# Altium integrated library Texas Instruments Interface USB.IntLib: 91 symbols (part 11 of 12)
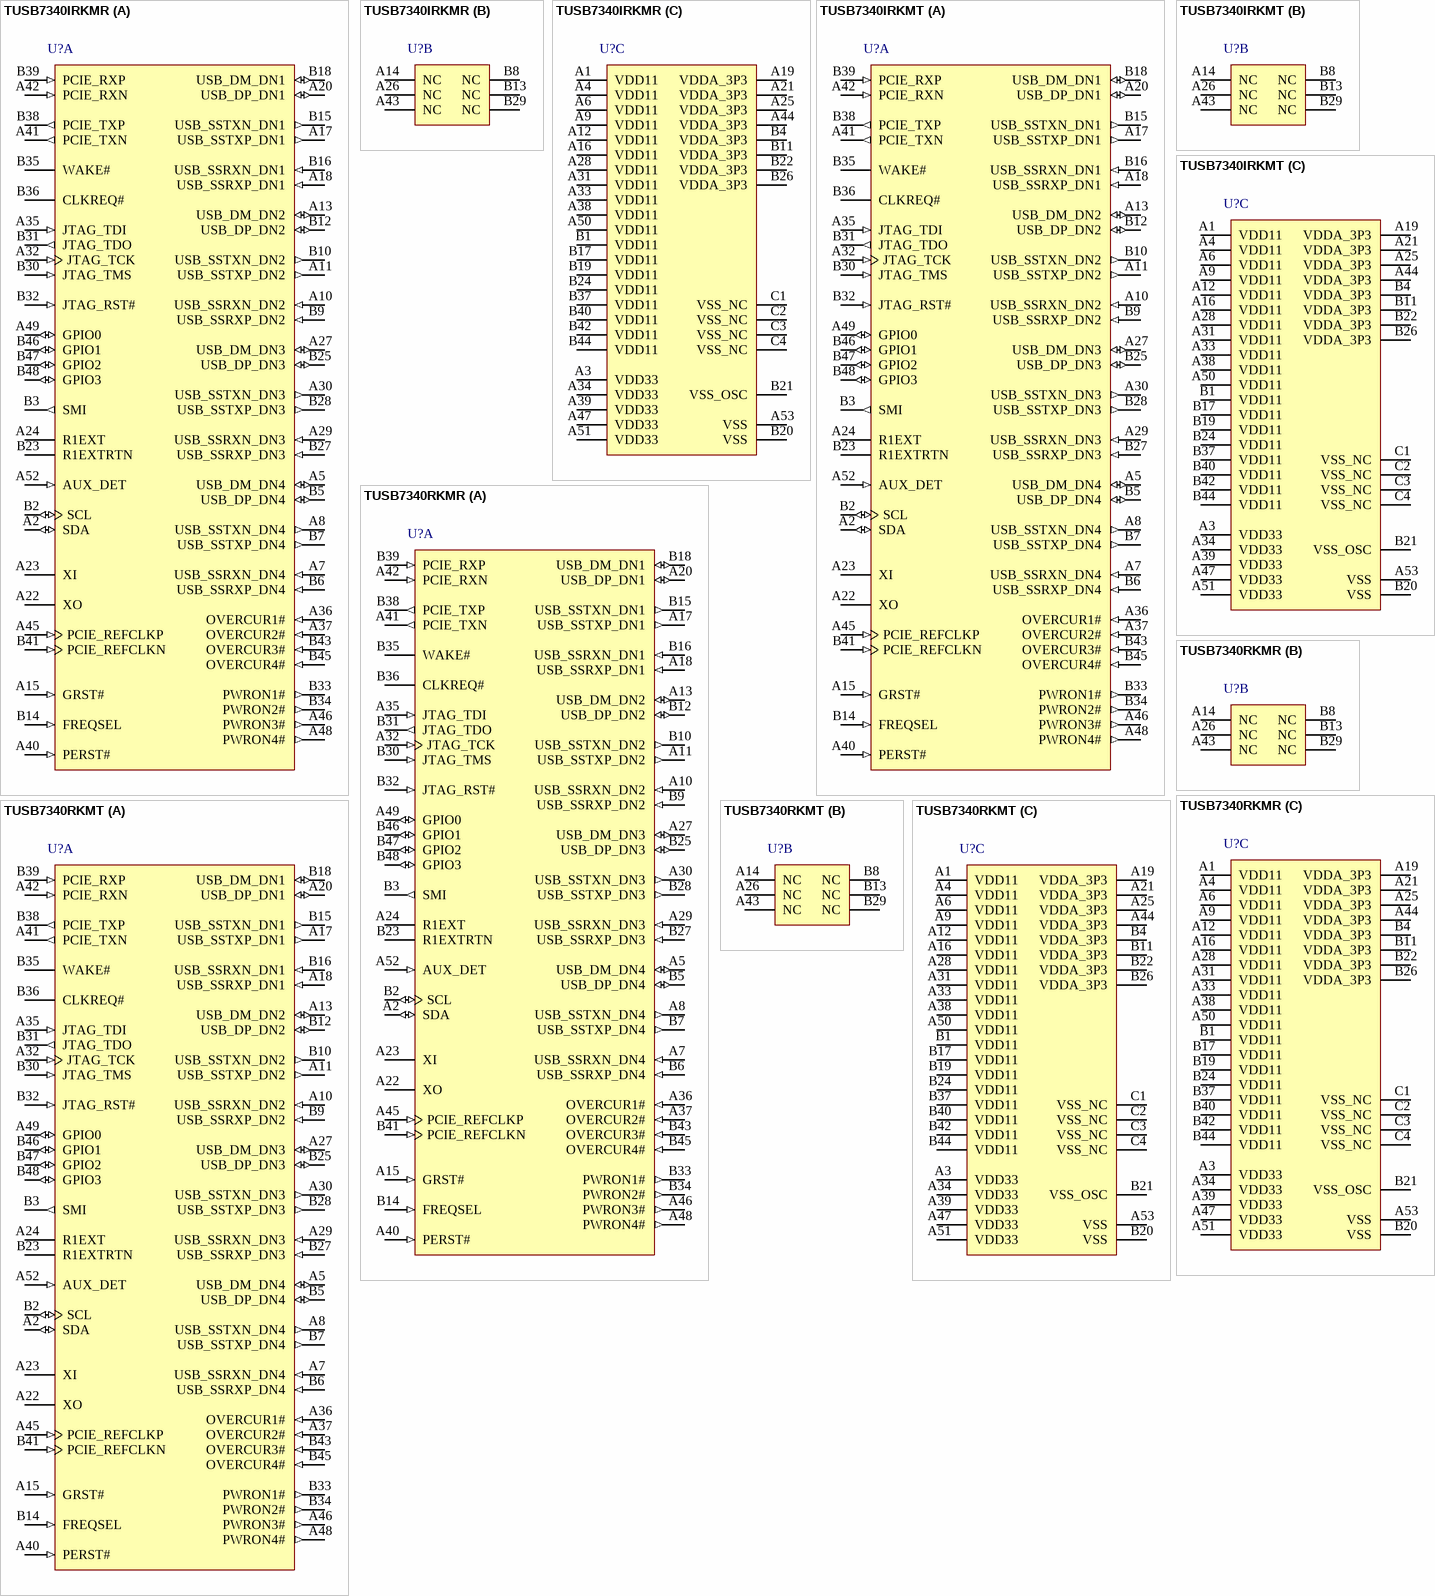
[diagram p18: symbols TUSB7340IRKMR to TUSB7340RKMT]

## TUSB7340IRKMT
designator U?
SuperSpeed USB 4-Port xHCI Host Controller, 1.1 / 3.3V, -40 to 85 degC, 100-Pin WQFN (RKM), Green (RoHS & no Sb/Br); PartNumber: TUSB7340IRKMT; Manufacturer: Texas Instruments; SubFamily: USB Host and On-the-Go; Supply Voltage(s)(V): 3.3, 1.1; Max# Host Ports: 4; App Proc Local Bus: x1 PCIe Gen2; DatasheetVersion: SLLSE76H; PackageVersion: revC, Oct-2011; PackageReference: RKM100-5500X5500TP; PackageDescription: 100-Pin Plastic Quad Flatpack No-Lead 0.6 mm Pitch; Mounting Technology: Surface Mount; Eco-Plan: Green (RoHS & no Sb/Br); USB Speed: SuperSpeed; ComponentLink1Description: Datasheet; ComponentLink1URL: http://www.ti.com/general/docs/lit/getliterature.tsp?genericPartNumber=TUSB7340&fileType=pdf; ComponentLink2Description: Package Specification; ComponentLink2URL: http://www.ti.com/litv/pdf/mpqf258b
footprint RKM100-5500X5500TP (QFN, 100-Leads, Body 9x9mm, Pitch 0.6mm, Thermal Pad 4.6x4.6mm, TI Recommended)
part A pins: A2 SDA (io) "I2C Data - If no I2C device is present, pull this line down to disable.", A5 USB_DM_DN4 (io) "USB High-speed differential transceiver (negative).", A7 USB_SSRXN_DN4 (in) "USB SuperSpeed receiver differential pair (negative).Note: When routing, it is permissible to swap the positive and negative signals in Port 4 SSRX differential pair.", A8 USB_SSTXN_DN4 (out) "USB SuperSpeed transmitter differential pair (negative).Note: When routing, it is permissible to swap the positive and negative signals in Port 4 SSTX differential pair.", A10 USB_SSRXN_DN2 (in) "USB SuperSpeed receiver differential pair ((negative)Note: When routing, it is permissible to swap the positive and negative signals in Port 2 SSRX differential pair.", A11 USB_SSTXP_DN2 (out) "USB SuperSpeed transmitter differential pair (positive).Note: When routing, it is permissible to swap the positive and negative signals in Port 2  SSTX differential pair", A13 USB_DM_DN2 (io) "USB High-speed differential transceiver (negative)", A15 GRST# (in) "Global power reset. This reset brings all of the TUSB73x0 internal registers to their default states. When GRST# is asserted, the device is completely nonfunctional. GRST# should be asserted until all power rails are valid (See Datasheet)", A17 USB_SSTXP_DN1 (out) "USB SuperSpeed transmitter differential pair (positive).Note: When routing, it is permissible to swap the positive and negative signals in Port 1 SSTX differential pair.", A18 USB_SSRXP_DN1 (in) "USB SuperSpeed receiver differential pair (positive).Note: When routing, it is permissible to swap the positive and negative signals in Port 1 SSRX differential pair.", A20 USB_DP_DN1 (io) "USB High-speed differential transceiver (positive).", A22 XO "Crystal output. This terminal is crystal output for the internal oscillator. If XI is driven by an external oscillator this pin may be left unconnected. When using a crystal a 2-M ohm feedback resistor is required between XI (See Datasheet)", A23 XI "Crystal intput. This terminal is crystal input for the internal oscillator.The input may alternately be driven by the output of an external oscillator. When using a crystal a 2-M ohm feedback resistor is required between XI (See Datasheet)", A24 R1EXT "High precision external resistor used for calibration. A resister value of 9.09 k ohm +/- 1% accuracy is connected between the terminals R1EXT and R1EXTRTN.", A27 USB_DM_DN3 (io) "USB High-speed differential transceiver (negative).", A29 USB_SSRXN_DN3 (in) "USB SuperSpeed receiver differential pair (negative).Note: When routing, it is permissible to swap the positive and negative signals in Port 3 SSRX differential pair.", A30 USB_SSTXN_DN3 (out) "USB SuperSpeed transmitter differential pair (negative).Note: When routing, it is permissible to swap the positive and negative signals in Port 3 SSTX differential pair.", A32 JTAG_TCK (in) "JTAG test clock", A35 JTAG_TDI (in) "JTAG test data in", A36 OVERCUR1# (in) "USB DS Port 1 Over-Current Detection.0: over-current detected; 1: over-current not detected.", A37 OVERCUR2# (in) "USB DS Port 2 Over-Current Detection.0: over-current detected;1: over-current not detected", A40 PERST# (in) "PCI Express Reset Input. The PERST# signal is used to signal when the system power is stable. The PERST# signal is also used to generate an internal power on reset.", A41 PCIE_TXN (out) "PCI Express transmitter differential pair (negative).", A42 PCIE_RXN (in) "PCI Express receiver differential pair (negative)", A45 PCIE_REFCLKP (in) "PCI Express Reference Clock. PCIE_REFCLKP and PCIE_REFCLKN comprise the differential input pair for the 100-MHz system reference clock.", A46 PWRON3# (out) "USB DS Port 3 Power On Control for Downstream Power. The terminal is used for control of the downstream power switch. If the PWRON_POLARITY bit is set to  ??this pin is active high and the internal pull-down is disabled. (See Datasheet)", A48 PWRON4# (out) "USB DS Port 4 Power On Control for Downstream Power. The terminal is used for control of the downstream power switch. If the PWRON_POLARITY bit is set to  ??this pin is active high and the internal pull-down is disabled. (See Datasheet)", A49 GPIO0 (io) "General purpose I/O", A52 AUX_DET (in) "Auxiliary power detect. This pin indicates if the TUSB73X0 is enabled for wakeup from D3cold.Note: If this feature is implemented, AUX_DET must be pulled to VDD33 to prevent leakage.", B2 SCL (io) "I2C Clock-If no I2C device is present, pull this line down to disable.", B3 SMI (out) "System management interrupt Note: This pin is active high and should not be pulled up/down.", B5 USB_DP_DN4 (io) "USB High-speed differential transceiver (positive).", B6 USB_SSRXP_DN4 (in) "USB SuperSpeed receiver differential pair (positive).Note: When routing, it is permissible to swap the positive and negative signals in Port 3 SSRX differential pair.", B7 USB_SSTXP_DN4 (out) "USB SuperSpeed transmitter differential pair (positive).Note: When routing, it is permissible to swap the positive and negative signals in Port 4 SSTX differential pair.", B9 USB_SSRXP_DN2 (in) "USB SuperSpeed receiver differential pair (positive)Note: When routing, it is permissible to swap the positive and negative signals in Port 2 SSRX differential pair.", B10 USB_SSTXN_DN2 (out) "USB SuperSpeed transmitter differential pair (negative).Note: When routing, it is permissible to swap the positive and negative signals in Port 2 SSTX differential pair.", B12 USB_DP_DN2 (io) "USB High-speed differential transceiver (positive).", B14 FREQSEL (in) "Frequency select. This terminal indicates the oscillator input frequency and is used to configure the correct PLL multiplier.If the FREQSEL pin is '0', the frequency used is 48 MHz. If the FREQSEL pin is '1', refer to Table (See Datasheet)", B15 USB_SSTXN_DN1 (out) "USB SuperSpeed transmitter differential pair (negative).Note: When routing, it is permissible to swap the positive and negative signals in Port 1 SSTX differential pair.", B16 USB_SSRXN_DN1 (in) "USB SuperSpeed receiver differential pair (negative).Note: When routing, it is permissible to swap the positive and negative signals in Port 1 SSRX differential pair.", B18 USB_DM_DN1 (io) "USB High-speed differential transceiver (negative).", B23 R1EXTRTN "High precision external resistor used for calibration. A resister value of 9.09 K ohm '+/- 1% accuracy is connected between the terminals R1EXT and R1EXTRTN.", B25 USB_DP_DN3 (io) "USB High-speed differential transceiver (positive).", B27 USB_SSRXP_DN3 (in) "USB SuperSpeed receiver differential pair (positive).Note: When routing, it is permissible to swap the positive and negative signals in Port 3 SSRX differential pair.", B28 USB_SSTXP_DN3 (out) "USB SuperSpeed transmitter differential pair (positive).Note: When routing, it is permissible to swap the positive and negative signals in Port 3 SSTX differential pair.", B30 JTAG_TMS (in) "JTAG test mode select", B31 JTAG_TDO (out) "JTAG test data out", B32 JTAG_RST# (in) "JTAG reset. Should be pulled low for normal operation.", B33 PWRON1# (out) "USB DS Port 1 Power On Control for Downstream Power. The terminal is used for control of the downstream power switch. If the PWRON_POLARITY bit is set to ??this pin is active high and the internal pull-down is disabled. (See Datasheet)", B34 PWRON2# (out) "USB DS Port 2 Power On Control for Downstream Power. The terminal is used for control of the downstream power switch. If the PWRON_POLARITY bit is set to  ??this pin is active high and the internal pull-down is disabled. (See Datasheet)", B35 WAKE# "Wake. Wake is an active low signal that is driven low to reactivate the PCI Express link hierarchy hierarchy’s main power rails and reference clocks.Note: WAKE# is a failsafe I/O and can be connected to a 3.3-V auxiliary (See Datasheet)", B36 CLKREQ# "PCI Express REFCLK Request signal.Note: CLKREQ# is a failsafe I/O and can be connected to a 3.3-V auxiliary supply while VDD33 is not present.", B38 PCIE_TXP (out) "PCI Express transmitter differential pair (positive).", B39 PCIE_RXP (in) "PCI Express receiver differential pair (positive).", B41 PCIE_REFCLKN (in) "PCI Express Reference Clock. PCIE_REFCLKP and PCIE_REFCLKN comprise the differential input pair for the 100-MHz system reference clock.", B43 OVERCUR3# (in) "USB DS Port 3 Over-Current Detection.0: over-current detected;1: over-current not detected", B45 OVERCUR4# (in) "USB DS Port 4 Over-Current Detection.0: over-current detected;1: over-current not detected", B46 GPIO1 (io) "General purpose I/O", B47 GPIO2 (io) "General purpose I/O", B48 GPIO3 (io) "General purpose I/O"
part B pins: A14 NC "Pins are not connected internally.Note: TUSB7320 pins B4 and B26 may be connected to VDDA_3P3 to support a dual-layout option with the TUSB7340.", A26 NC "Pins are not connected internally.Note: TUSB7320 pins B4 and B26 may be connected to VDDA_3P3 to support a dual-layout option with the TUSB7340.", A43 NC "Pins are not connected internally.Note: TUSB7320 pins B4 and B26 may be connected to VDDA_3P3 to support a dual-layout option with the TUSB7340.", B8 NC "Pins are not connected internally.Note: TUSB7320 pins B4 and B26 may be connected to VDDA_3P3 to support a dual-layout option with the TUSB7340.", B13 NC "Pins are not connected internally.Note: TUSB7320 pins B4 and B26 may be connected to VDDA_3P3 to support a dual-layout option with the TUSB7340.", B29 NC "Pins are not connected internally.Note: TUSB7320 pins B4 and B26 may be connected to VDDA_3P3 to support a dual-layout option with the TUSB7340."
part C pins: A1 VDD11 (power) "1.1-V core power rail", A3 VDD33 (power) "3.3-V I/O power rail", A4 VDD11 (power) "1.1-V core power rail", A6 VDD11 (power) "1.1-V core power rail", A9 VDD11 (power) "1.1-V core power rail", A12 VDD11 (power) "1.1-V core power rail", A16 VDD11 (power) "1.1-V core power rail", A19 VDDA_3P3 (power) "3.3-V analog power rail", A21 VDDA_3P3 (power) "3.3-V analog power rail", A25 VDDA_3P3 (power) "3.3-V analog power rail", A28 VDD11 (power) "1.1-V core power rail", A31 VDD11 (power) "1.1-V core power rail", A33 VDD11 (power) "1.1-V core power rail", A34 VDD33 (power) "3.3-V I/O power rail", A38 VDD11 (power) "1.1-V core power rail", A39 VDD33 (power) "3.3-V I/O power rail", A44 VDDA_3P3 (power) "3.3-V analog power rail", A47 VDD33 (power) "3.3-V I/O power rail", A50 VDD11 (power) "1.1-V core power rail", A51 VDD33 (power) "3.3-V I/O power rail", A53 VSS (power) "Ground. The ground pad is labeled A53 for schematic purposes.", B1 VDD11 (power) "1.1-V core power rail", B4 VDDA_3P3 (power) "3.3-V analog power rail", B11 VDDA_3P3 (power) "3.3-V analog power rail", B17 VDD11 (power) "1.1-V core power rail", B19 VDD11 (power) "1.1-V core power rail", B20 VSS (power) "Ground. The ground pad is labeled A53 for schematic purposes.", B21 VSS_OSC (power) "Oscillator return.If using a crystal, the load capacitors should use this signal as the return path and it should not be connected to the PCB ground.If using an oscillator, this should be connected to PCB Ground.", B22 VDDA_3P3 (power) "3.3-V analog power rail", B24 VDD11 (power) "1.1-V core power rail", B26 VDDA_3P3 (power) "3.3-V analog power rail", B37 VDD11 (power) "1.1-V core power rail", B40 VDD11 (power) "1.1-V core power rail", B42 VDD11 (power) "1.1-V core power rail", B44 VDD11 (power) "1.1-V core power rail", C1 VSS_NC (power) "The corner pins, which are for mechanical stability of the package, are connected to ground internally. These pins may be connected to VSS or left unconnected.", C2 VSS_NC (power) "The corner pins, which are for mechanical stability of the package, are connected to ground internally. These pins may be connected to VSS or left unconnected.", C3 VSS_NC (power) "The corner pins, which are for mechanical stability of the package, are connected to ground internally. These pins may be connected to VSS or left unconnected.", C4 VSS_NC (power) "The corner pins, which are for mechanical stability of the package, are connected to ground internally. These pins may be connected to VSS or left unconnected."

## TUSB7340RKMR
designator U?
SuperSpeed USB 4-Port xHCI Host Controller, 1.1 / 3.3V, 0 to 70 degC, 100-Pin WQFN (RKM), Green (RoHS & no Sb/Br); PartNumber: TUSB7340RKMR; Manufacturer: Texas Instruments; SubFamily: USB Host and On-the-Go; Supply Voltage(s)(V): 3.3, 1.1; Max# Host Ports: 4; App Proc Local Bus: x1 PCIe Gen2; DatasheetVersion: SLLSE76H; PackageVersion: revC, Oct-2011; PackageReference: RKM100-5500X5500TP; PackageDescription: 100-Pin Plastic Quad Flatpack No-Lead 0.6 mm Pitch; Mounting Technology: Surface Mount; Eco-Plan: Green (RoHS & no Sb/Br); USB Speed: SuperSpeed; ComponentLink1Description: Datasheet; ComponentLink1URL: http://www.ti.com/general/docs/lit/getliterature.tsp?genericPartNumber=TUSB7340&fileType=pdf; ComponentLink2Description: Package Specification; ComponentLink2URL: http://www.ti.com/litv/pdf/mpqf258b
footprint RKM100-5500X5500TP (QFN, 100-Leads, Body 9x9mm, Pitch 0.6mm, Thermal Pad 4.6x4.6mm, TI Recommended)
part A pins: A2 SDA (io) "I2C Data - If no I2C device is present, pull this line down to disable.", A5 USB_DM_DN4 (io) "USB High-speed differential transceiver (negative).", A7 USB_SSRXN_DN4 (in) "USB SuperSpeed receiver differential pair (negative).Note: When routing, it is permissible to swap the positive and negative signals in Port 4 SSRX differential pair.", A8 USB_SSTXN_DN4 (out) "USB SuperSpeed transmitter differential pair (negative).Note: When routing, it is permissible to swap the positive and negative signals in Port 4 SSTX differential pair.", A10 USB_SSRXN_DN2 (in) "USB SuperSpeed receiver differential pair ((negative)Note: When routing, it is permissible to swap the positive and negative signals in Port 2 SSRX differential pair.", A11 USB_SSTXP_DN2 (out) "USB SuperSpeed transmitter differential pair (positive).Note: When routing, it is permissible to swap the positive and negative signals in Port 2  SSTX differential pair", A13 USB_DM_DN2 (io) "USB High-speed differential transceiver (negative)", A15 GRST# (in) "Global power reset. This reset brings all of the TUSB73x0 internal registers to their default states. When GRST# is asserted, the device is completely nonfunctional. GRST# should be asserted until all power rails are valid (See Datasheet)", A17 USB_SSTXP_DN1 (out) "USB SuperSpeed transmitter differential pair (positive).Note: When routing, it is permissible to swap the positive and negative signals in Port 1 SSTX differential pair.", A18 USB_SSRXP_DN1 (in) "USB SuperSpeed receiver differential pair (positive).Note: When routing, it is permissible to swap the positive and negative signals in Port 1 SSRX differential pair.", A20 USB_DP_DN1 (io) "USB High-speed differential transceiver (positive).", A22 XO "Crystal output. This terminal is crystal output for the internal oscillator. If XI is driven by an external oscillator this pin may be left unconnected. When using a crystal a 2-M ohm feedback resistor is required between XI (See Datasheet)", A23 XI "Crystal intput. This terminal is crystal input for the internal oscillator.The input may alternately be driven by the output of an external oscillator. When using a crystal a 2-M ohm feedback resistor is required between XI (See Datasheet)", A24 R1EXT "High precision external resistor used for calibration. A resister value of 9.09 k ohm +/- 1% accuracy is connected between the terminals R1EXT and R1EXTRTN.", A27 USB_DM_DN3 (io) "USB High-speed differential transceiver (negative).", A29 USB_SSRXN_DN3 (in) "USB SuperSpeed receiver differential pair (negative).Note: When routing, it is permissible to swap the positive and negative signals in Port 3 SSRX differential pair.", A30 USB_SSTXN_DN3 (out) "USB SuperSpeed transmitter differential pair (negative).Note: When routing, it is permissible to swap the positive and negative signals in Port 3 SSTX differential pair.", A32 JTAG_TCK (in) "JTAG test clock", A35 JTAG_TDI (in) "JTAG test data in", A36 OVERCUR1# (in) "USB DS Port 1 Over-Current Detection.0: over-current detected; 1: over-current not detected.", A37 OVERCUR2# (in) "USB DS Port 2 Over-Current Detection.0: over-current detected;1: over-current not detected", A40 PERST# (in) "PCI Express Reset Input. The PERST# signal is used to signal when the system power is stable. The PERST# signal is also used to generate an internal power on reset.", A41 PCIE_TXN (out) "PCI Express transmitter differential pair (negative).", A42 PCIE_RXN (in) "PCI Express receiver differential pair (negative)", A45 PCIE_REFCLKP (in) "PCI Express Reference Clock. PCIE_REFCLKP and PCIE_REFCLKN comprise the differential input pair for the 100-MHz system reference clock.", A46 PWRON3# (out) "USB DS Port 3 Power On Control for Downstream Power. The terminal is used for control of the downstream power switch. If the PWRON_POLARITY bit is set to  ??this pin is active high and the internal pull-down is disabled. (See Datasheet)", A48 PWRON4# (out) "USB DS Port 4 Power On Control for Downstream Power. The terminal is used for control of the downstream power switch. If the PWRON_POLARITY bit is set to  ??this pin is active high and the internal pull-down is disabled. (See Datasheet)", A49 GPIO0 (io) "General purpose I/O", A52 AUX_DET (in) "Auxiliary power detect. This pin indicates if the TUSB73X0 is enabled for wakeup from D3cold.Note: If this feature is implemented, AUX_DET must be pulled to VDD33 to prevent leakage.", B2 SCL (io) "I2C Clock-If no I2C device is present, pull this line down to disable.", B3 SMI (out) "System management interrupt Note: This pin is active high and should not be pulled up/down.", B5 USB_DP_DN4 (io) "USB High-speed differential transceiver (positive).", B6 USB_SSRXP_DN4 (in) "USB SuperSpeed receiver differential pair (positive).Note: When routing, it is permissible to swap the positive and negative signals in Port 3 SSRX differential pair.", B7 USB_SSTXP_DN4 (out) "USB SuperSpeed transmitter differential pair (positive).Note: When routing, it is permissible to swap the positive and negative signals in Port 4 SSTX differential pair.", B9 USB_SSRXP_DN2 (in) "USB SuperSpeed receiver differential pair (positive)Note: When routing, it is permissible to swap the positive and negative signals in Port 2 SSRX differential pair.", B10 USB_SSTXN_DN2 (out) "USB SuperSpeed transmitter differential pair (negative).Note: When routing, it is permissible to swap the positive and negative signals in Port 2 SSTX differential pair.", B12 USB_DP_DN2 (io) "USB High-speed differential transceiver (positive).", B14 FREQSEL (in) "Frequency select. This terminal indicates the oscillator input frequency and is used to configure the correct PLL multiplier.If the FREQSEL pin is '0', the frequency used is 48 MHz. If the FREQSEL pin is '1', refer to Table (See Datasheet)", B15 USB_SSTXN_DN1 (out) "USB SuperSpeed transmitter differential pair (negative).Note: When routing, it is permissible to swap the positive and negative signals in Port 1 SSTX differential pair.", B16 USB_SSRXN_DN1 (in) "USB SuperSpeed receiver differential pair (negative).Note: When routing, it is permissible to swap the positive and negative signals in Port 1 SSRX differential pair.", B18 USB_DM_DN1 (io) "USB High-speed differential transceiver (negative).", B23 R1EXTRTN "High precision external resistor used for calibration. A resister value of 9.09 K ohm '+/- 1% accuracy is connected between the terminals R1EXT and R1EXTRTN.", B25 USB_DP_DN3 (io) "USB High-speed differential transceiver (positive).", B27 USB_SSRXP_DN3 (in) "USB SuperSpeed receiver differential pair (positive).Note: When routing, it is permissible to swap the positive and negative signals in Port 3 SSRX differential pair.", B28 USB_SSTXP_DN3 (out) "USB SuperSpeed transmitter differential pair (positive).Note: When routing, it is permissible to swap the positive and negative signals in Port 3 SSTX differential pair.", B30 JTAG_TMS (in) "JTAG test mode select", B31 JTAG_TDO (out) "JTAG test data out", B32 JTAG_RST# (in) "JTAG reset. Should be pulled low for normal operation.", B33 PWRON1# (out) "USB DS Port 1 Power On Control for Downstream Power. The terminal is used for control of the downstream power switch. If the PWRON_POLARITY bit is set to ??this pin is active high and the internal pull-down is disabled. (See Datasheet)", B34 PWRON2# (out) "USB DS Port 2 Power On Control for Downstream Power. The terminal is used for control of the downstream power switch. If the PWRON_POLARITY bit is set to  ??this pin is active high and the internal pull-down is disabled. (See Datasheet)", B35 WAKE# "Wake. Wake is an active low signal that is driven low to reactivate the PCI Express link hierarchy hierarchy’s main power rails and reference clocks.Note: WAKE# is a failsafe I/O and can be connected to a 3.3-V auxiliary (See Datasheet)", B36 CLKREQ# "PCI Express REFCLK Request signal.Note: CLKREQ# is a failsafe I/O and can be connected to a 3.3-V auxiliary supply while VDD33 is not present.", B38 PCIE_TXP (out) "PCI Express transmitter differential pair (positive).", B39 PCIE_RXP (in) "PCI Express receiver differential pair (positive).", B41 PCIE_REFCLKN (in) "PCI Express Reference Clock. PCIE_REFCLKP and PCIE_REFCLKN comprise the differential input pair for the 100-MHz system reference clock.", B43 OVERCUR3# (in) "USB DS Port 3 Over-Current Detection.0: over-current detected;1: over-current not detected", B45 OVERCUR4# (in) "USB DS Port 4 Over-Current Detection.0: over-current detected;1: over-current not detected", B46 GPIO1 (io) "General purpose I/O", B47 GPIO2 (io) "General purpose I/O", B48 GPIO3 (io) "General purpose I/O"
part B pins: A14 NC "Pins are not connected internally.Note: TUSB7320 pins B4 and B26 may be connected to VDDA_3P3 to support a dual-layout option with the TUSB7340.", A26 NC "Pins are not connected internally.Note: TUSB7320 pins B4 and B26 may be connected to VDDA_3P3 to support a dual-layout option with the TUSB7340.", A43 NC "Pins are not connected internally.Note: TUSB7320 pins B4 and B26 may be connected to VDDA_3P3 to support a dual-layout option with the TUSB7340.", B8 NC "Pins are not connected internally.Note: TUSB7320 pins B4 and B26 may be connected to VDDA_3P3 to support a dual-layout option with the TUSB7340.", B13 NC "Pins are not connected internally.Note: TUSB7320 pins B4 and B26 may be connected to VDDA_3P3 to support a dual-layout option with the TUSB7340.", B29 NC "Pins are not connected internally.Note: TUSB7320 pins B4 and B26 may be connected to VDDA_3P3 to support a dual-layout option with the TUSB7340."
part C pins: A1 VDD11 (power) "1.1-V core power rail", A3 VDD33 (power) "3.3-V I/O power rail", A4 VDD11 (power) "1.1-V core power rail", A6 VDD11 (power) "1.1-V core power rail", A9 VDD11 (power) "1.1-V core power rail", A12 VDD11 (power) "1.1-V core power rail", A16 VDD11 (power) "1.1-V core power rail", A19 VDDA_3P3 (power) "3.3-V analog power rail", A21 VDDA_3P3 (power) "3.3-V analog power rail", A25 VDDA_3P3 (power) "3.3-V analog power rail", A28 VDD11 (power) "1.1-V core power rail", A31 VDD11 (power) "1.1-V core power rail", A33 VDD11 (power) "1.1-V core power rail", A34 VDD33 (power) "3.3-V I/O power rail", A38 VDD11 (power) "1.1-V core power rail", A39 VDD33 (power) "3.3-V I/O power rail", A44 VDDA_3P3 (power) "3.3-V analog power rail", A47 VDD33 (power) "3.3-V I/O power rail", A50 VDD11 (power) "1.1-V core power rail", A51 VDD33 (power) "3.3-V I/O power rail", A53 VSS (power) "Ground. The ground pad is labeled A53 for schematic purposes.", B1 VDD11 (power) "1.1-V core power rail", B4 VDDA_3P3 (power) "3.3-V analog power rail", B11 VDDA_3P3 (power) "3.3-V analog power rail", B17 VDD11 (power) "1.1-V core power rail", B19 VDD11 (power) "1.1-V core power rail", B20 VSS (power) "Ground. The ground pad is labeled A53 for schematic purposes.", B21 VSS_OSC (power) "Oscillator return.If using a crystal, the load capacitors should use this signal as the return path and it should not be connected to the PCB ground.If using an oscillator, this should be connected to PCB Ground.", B22 VDDA_3P3 (power) "3.3-V analog power rail", B24 VDD11 (power) "1.1-V core power rail", B26 VDDA_3P3 (power) "3.3-V analog power rail", B37 VDD11 (power) "1.1-V core power rail", B40 VDD11 (power) "1.1-V core power rail", B42 VDD11 (power) "1.1-V core power rail", B44 VDD11 (power) "1.1-V core power rail", C1 VSS_NC (power) "The corner pins, which are for mechanical stability of the package, are connected to ground internally. These pins may be connected to VSS or left unconnected.", C2 VSS_NC (power) "The corner pins, which are for mechanical stability of the package, are connected to ground internally. These pins may be connected to VSS or left unconnected.", C3 VSS_NC (power) "The corner pins, which are for mechanical stability of the package, are connected to ground internally. These pins may be connected to VSS or left unconnected.", C4 VSS_NC (power) "The corner pins, which are for mechanical stability of the package, are connected to ground internally. These pins may be connected to VSS or left unconnected."

## TUSB7340RKMT
designator U?
SuperSpeed USB 4-Port xHCI Host Controller, 1.1 / 3.3V, 0 to 70 degC, 100-Pin WQFN (RKM), Green (RoHS & no Sb/Br); PartNumber: TUSB7340RKMT; Manufacturer: Texas Instruments; SubFamily: USB Host and On-the-Go; Supply Voltage(s)(V): 3.3, 1.1; Max# Host Ports: 4; App Proc Local Bus: x1 PCIe Gen2; DatasheetVersion: SLLSE76H; PackageVersion: revC, Oct-2011; PackageReference: RKM100-5500X5500TP; PackageDescription: 100-Pin Plastic Quad Flatpack No-Lead 0.6 mm Pitch; Mounting Technology: Surface Mount; Eco-Plan: Green (RoHS & no Sb/Br); USB Speed: SuperSpeed; ComponentLink1Description: Datasheet; ComponentLink1URL: http://www.ti.com/general/docs/lit/getliterature.tsp?genericPartNumber=TUSB7340&fileType=pdf; ComponentLink2Description: Package Specification; ComponentLink2URL: http://www.ti.com/litv/pdf/mpqf258b
footprint RKM100-5500X5500TP (QFN, 100-Leads, Body 9x9mm, Pitch 0.6mm, Thermal Pad 4.6x4.6mm, TI Recommended)
part A pins: A2 SDA (io) "I2C Data - If no I2C device is present, pull this line down to disable.", A5 USB_DM_DN4 (io) "USB High-speed differential transceiver (negative).", A7 USB_SSRXN_DN4 (in) "USB SuperSpeed receiver differential pair (negative).Note: When routing, it is permissible to swap the positive and negative signals in Port 4 SSRX differential pair.", A8 USB_SSTXN_DN4 (out) "USB SuperSpeed transmitter differential pair (negative).Note: When routing, it is permissible to swap the positive and negative signals in Port 4 SSTX differential pair.", A10 USB_SSRXN_DN2 (in) "USB SuperSpeed receiver differential pair ((negative)Note: When routing, it is permissible to swap the positive and negative signals in Port 2 SSRX differential pair.", A11 USB_SSTXP_DN2 (out) "USB SuperSpeed transmitter differential pair (positive).Note: When routing, it is permissible to swap the positive and negative signals in Port 2  SSTX differential pair", A13 USB_DM_DN2 (io) "USB High-speed differential transceiver (negative)", A15 GRST# (in) "Global power reset. This reset brings all of the TUSB73x0 internal registers to their default states. When GRST# is asserted, the device is completely nonfunctional. GRST# should be asserted until all power rails are valid (See Datasheet)", A17 USB_SSTXP_DN1 (out) "USB SuperSpeed transmitter differential pair (positive).Note: When routing, it is permissible to swap the positive and negative signals in Port 1 SSTX differential pair.", A18 USB_SSRXP_DN1 (in) "USB SuperSpeed receiver differential pair (positive).Note: When routing, it is permissible to swap the positive and negative signals in Port 1 SSRX differential pair.", A20 USB_DP_DN1 (io) "USB High-speed differential transceiver (positive).", A22 XO "Crystal output. This terminal is crystal output for the internal oscillator. If XI is driven by an external oscillator this pin may be left unconnected. When using a crystal a 2-M ohm feedback resistor is required between XI (See Datasheet)", A23 XI "Crystal intput. This terminal is crystal input for the internal oscillator.The input may alternately be driven by the output of an external oscillator. When using a crystal a 2-M ohm feedback resistor is required between XI (See Datasheet)", A24 R1EXT "High precision external resistor used for calibration. A resister value of 9.09 k ohm +/- 1% accuracy is connected between the terminals R1EXT and R1EXTRTN.", A27 USB_DM_DN3 (io) "USB High-speed differential transceiver (negative).", A29 USB_SSRXN_DN3 (in) "USB SuperSpeed receiver differential pair (negative).Note: When routing, it is permissible to swap the positive and negative signals in Port 3 SSRX differential pair.", A30 USB_SSTXN_DN3 (out) "USB SuperSpeed transmitter differential pair (negative).Note: When routing, it is permissible to swap the positive and negative signals in Port 3 SSTX differential pair.", A32 JTAG_TCK (in) "JTAG test clock", A35 JTAG_TDI (in) "JTAG test data in", A36 OVERCUR1# (in) "USB DS Port 1 Over-Current Detection.0: over-current detected; 1: over-current not detected.", A37 OVERCUR2# (in) "USB DS Port 2 Over-Current Detection.0: over-current detected;1: over-current not detected", A40 PERST# (in) "PCI Express Reset Input. The PERST# signal is used to signal when the system power is stable. The PERST# signal is also used to generate an internal power on reset.", A41 PCIE_TXN (out) "PCI Express transmitter differential pair (negative).", A42 PCIE_RXN (in) "PCI Express receiver differential pair (negative)", A45 PCIE_REFCLKP (in) "PCI Express Reference Clock. PCIE_REFCLKP and PCIE_REFCLKN comprise the differential input pair for the 100-MHz system reference clock.", A46 PWRON3# (out) "USB DS Port 3 Power On Control for Downstream Power. The terminal is used for control of the downstream power switch. If the PWRON_POLARITY bit is set to  ??this pin is active high and the internal pull-down is disabled. (See Datasheet)", A48 PWRON4# (out) "USB DS Port 4 Power On Control for Downstream Power. The terminal is used for control of the downstream power switch. If the PWRON_POLARITY bit is set to  ??this pin is active high and the internal pull-down is disabled. (See Datasheet)", A49 GPIO0 (io) "General purpose I/O", A52 AUX_DET (in) "Auxiliary power detect. This pin indicates if the TUSB73X0 is enabled for wakeup from D3cold.Note: If this feature is implemented, AUX_DET must be pulled to VDD33 to prevent leakage.", B2 SCL (io) "I2C Clock-If no I2C device is present, pull this line down to disable.", B3 SMI (out) "System management interrupt Note: This pin is active high and should not be pulled up/down.", B5 USB_DP_DN4 (io) "USB High-speed differential transceiver (positive).", B6 USB_SSRXP_DN4 (in) "USB SuperSpeed receiver differential pair (positive).Note: When routing, it is permissible to swap the positive and negative signals in Port 3 SSRX differential pair.", B7 USB_SSTXP_DN4 (out) "USB SuperSpeed transmitter differential pair (positive).Note: When routing, it is permissible to swap the positive and negative signals in Port 4 SSTX differential pair.", B9 USB_SSRXP_DN2 (in) "USB SuperSpeed receiver differential pair (positive)Note: When routing, it is permissible to swap the positive and negative signals in Port 2 SSRX differential pair.", B10 USB_SSTXN_DN2 (out) "USB SuperSpeed transmitter differential pair (negative).Note: When routing, it is permissible to swap the positive and negative signals in Port 2 SSTX differential pair.", B12 USB_DP_DN2 (io) "USB High-speed differential transceiver (positive).", B14 FREQSEL (in) "Frequency select. This terminal indicates the oscillator input frequency and is used to configure the correct PLL multiplier.If the FREQSEL pin is '0', the frequency used is 48 MHz. If the FREQSEL pin is '1', refer to Table (See Datasheet)", B15 USB_SSTXN_DN1 (out) "USB SuperSpeed transmitter differential pair (negative).Note: When routing, it is permissible to swap the positive and negative signals in Port 1 SSTX differential pair.", B16 USB_SSRXN_DN1 (in) "USB SuperSpeed receiver differential pair (negative).Note: When routing, it is permissible to swap the positive and negative signals in Port 1 SSRX differential pair.", B18 USB_DM_DN1 (io) "USB High-speed differential transceiver (negative).", B23 R1EXTRTN "High precision external resistor used for calibration. A resister value of 9.09 K ohm '+/- 1% accuracy is connected between the terminals R1EXT and R1EXTRTN.", B25 USB_DP_DN3 (io) "USB High-speed differential transceiver (positive).", B27 USB_SSRXP_DN3 (in) "USB SuperSpeed receiver differential pair (positive).Note: When routing, it is permissible to swap the positive and negative signals in Port 3 SSRX differential pair.", B28 USB_SSTXP_DN3 (out) "USB SuperSpeed transmitter differential pair (positive).Note: When routing, it is permissible to swap the positive and negative signals in Port 3 SSTX differential pair.", B30 JTAG_TMS (in) "JTAG test mode select", B31 JTAG_TDO (out) "JTAG test data out", B32 JTAG_RST# (in) "JTAG reset. Should be pulled low for normal operation.", B33 PWRON1# (out) "USB DS Port 1 Power On Control for Downstream Power. The terminal is used for control of the downstream power switch. If the PWRON_POLARITY bit is set to ??this pin is active high and the internal pull-down is disabled. (See Datasheet)", B34 PWRON2# (out) "USB DS Port 2 Power On Control for Downstream Power. The terminal is used for control of the downstream power switch. If the PWRON_POLARITY bit is set to  ??this pin is active high and the internal pull-down is disabled. (See Datasheet)", B35 WAKE# "Wake. Wake is an active low signal that is driven low to reactivate the PCI Express link hierarchy hierarchy’s main power rails and reference clocks.Note: WAKE# is a failsafe I/O and can be connected to a 3.3-V auxiliary (See Datasheet)", B36 CLKREQ# "PCI Express REFCLK Request signal.Note: CLKREQ# is a failsafe I/O and can be connected to a 3.3-V auxiliary supply while VDD33 is not present.", B38 PCIE_TXP (out) "PCI Express transmitter differential pair (positive).", B39 PCIE_RXP (in) "PCI Express receiver differential pair (positive).", B41 PCIE_REFCLKN (in) "PCI Express Reference Clock. PCIE_REFCLKP and PCIE_REFCLKN comprise the differential input pair for the 100-MHz system reference clock.", B43 OVERCUR3# (in) "USB DS Port 3 Over-Current Detection.0: over-current detected;1: over-current not detected", B45 OVERCUR4# (in) "USB DS Port 4 Over-Current Detection.0: over-current detected;1: over-current not detected", B46 GPIO1 (io) "General purpose I/O", B47 GPIO2 (io) "General purpose I/O", B48 GPIO3 (io) "General purpose I/O"
part B pins: A14 NC "Pins are not connected internally.Note: TUSB7320 pins B4 and B26 may be connected to VDDA_3P3 to support a dual-layout option with the TUSB7340.", A26 NC "Pins are not connected internally.Note: TUSB7320 pins B4 and B26 may be connected to VDDA_3P3 to support a dual-layout option with the TUSB7340.", A43 NC "Pins are not connected internally.Note: TUSB7320 pins B4 and B26 may be connected to VDDA_3P3 to support a dual-layout option with the TUSB7340.", B8 NC "Pins are not connected internally.Note: TUSB7320 pins B4 and B26 may be connected to VDDA_3P3 to support a dual-layout option with the TUSB7340.", B13 NC "Pins are not connected internally.Note: TUSB7320 pins B4 and B26 may be connected to VDDA_3P3 to support a dual-layout option with the TUSB7340.", B29 NC "Pins are not connected internally.Note: TUSB7320 pins B4 and B26 may be connected to VDDA_3P3 to support a dual-layout option with the TUSB7340."
part C pins: A1 VDD11 (power) "1.1-V core power rail", A3 VDD33 (power) "3.3-V I/O power rail", A4 VDD11 (power) "1.1-V core power rail", A6 VDD11 (power) "1.1-V core power rail", A9 VDD11 (power) "1.1-V core power rail", A12 VDD11 (power) "1.1-V core power rail", A16 VDD11 (power) "1.1-V core power rail", A19 VDDA_3P3 (power) "3.3-V analog power rail", A21 VDDA_3P3 (power) "3.3-V analog power rail", A25 VDDA_3P3 (power) "3.3-V analog power rail", A28 VDD11 (power) "1.1-V core power rail", A31 VDD11 (power) "1.1-V core power rail", A33 VDD11 (power) "1.1-V core power rail", A34 VDD33 (power) "3.3-V I/O power rail", A38 VDD11 (power) "1.1-V core power rail", A39 VDD33 (power) "3.3-V I/O power rail", A44 VDDA_3P3 (power) "3.3-V analog power rail", A47 VDD33 (power) "3.3-V I/O power rail", A50 VDD11 (power) "1.1-V core power rail", A51 VDD33 (power) "3.3-V I/O power rail", A53 VSS (power) "Ground. The ground pad is labeled A53 for schematic purposes.", B1 VDD11 (power) "1.1-V core power rail", B4 VDDA_3P3 (power) "3.3-V analog power rail", B11 VDDA_3P3 (power) "3.3-V analog power rail", B17 VDD11 (power) "1.1-V core power rail", B19 VDD11 (power) "1.1-V core power rail", B20 VSS (power) "Ground. The ground pad is labeled A53 for schematic purposes.", B21 VSS_OSC (power) "Oscillator return.If using a crystal, the load capacitors should use this signal as the return path and it should not be connected to the PCB ground.If using an oscillator, this should be connected to PCB Ground.", B22 VDDA_3P3 (power) "3.3-V analog power rail", B24 VDD11 (power) "1.1-V core power rail", B26 VDDA_3P3 (power) "3.3-V analog power rail", B37 VDD11 (power) "1.1-V core power rail", B40 VDD11 (power) "1.1-V core power rail", B42 VDD11 (power) "1.1-V core power rail", B44 VDD11 (power) "1.1-V core power rail", C1 VSS_NC (power) "The corner pins, which are for mechanical stability of the package, are connected to ground internally. These pins may be connected to VSS or left unconnected.", C2 VSS_NC (power) "The corner pins, which are for mechanical stability of the package, are connected to ground internally. These pins may be connected to VSS or left unconnected.", C3 VSS_NC (power) "The corner pins, which are for mechanical stability of the package, are connected to ground internally. These pins may be connected to VSS or left unconnected.", C4 VSS_NC (power) "The corner pins, which are for mechanical stability of the package, are connected to ground internally. These pins may be connected to VSS or left unconnected."

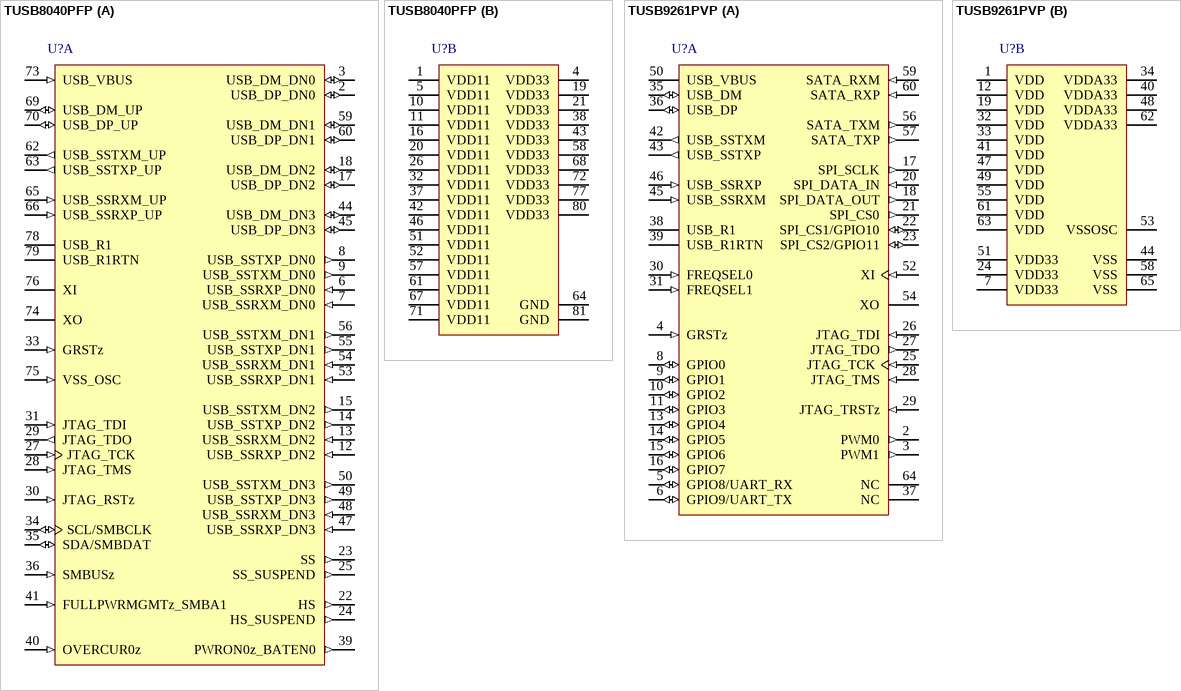
[diagram p8: symbols TUSB8040PFP to TUSB9261PVP]

## TUSB8040PFP
designator U?
SuperSpeed USB (USB 3.0) 4-port Hub Controller, 1.1 / 3.3V, 0 to 70 degC, 80-Pin HTQFP (PFP), Green (RoHS & no Sb/Br); PartNumber: TUSB8040PFP; Manufacturer: Texas Instruments; SubFamily: USB Hub Controller; USB SUPER SPEED: True; Supply Voltage(s)(V): 1.1, 3.3"; DatasheetVersion: SLLSE42F; PackageVersion: revC, Jul-2011; PackageReference: PFP80-4300X5400TP; PackageDescription: 80-Pin Plastic Quad Flat Pack PowerPAD; Mounting Technology: Surface Mount; Eco-Plan: Green (RoHS & no Sb/Br); USB Speed: SuperSpeed; Integrated MCU Architecture: N/A; Code_JEDEC: MS-026; ComponentLink1Description: Datasheet; ComponentLink1URL: http://www.ti.com/general/docs/lit/getliterature.tsp?genericPartNumber=TUSB8040&fileType=pdf; ComponentLink2Description: Package Specification; ComponentLink2URL: http://www.ti.com/litv/pdf/mpqf049b
footprint PFP80-4300X5400TP_N (Thin QFP, 80-Leads, Body 12x12mm, Pitch 0.5mm, IPC Medium Density)
footprint PFP80-4300X5400TP_L (Thin QFP, 80-Leads, Body 12x12mm, Pitch 0.5mm, IPC High Density)
footprint PFP80-4300X5400TP_M (Thin QFP, 80-Leads, Body 12x12mm, Pitch 0.5mm, IPC Low Density)
part A pins: 2 USB_DP_DN0 (io) "USB high-speed differential transceiver (positive)", 3 USB_DM_DN0 (io) "USB high-speed differential transceiver (negative)", 6 USB_SSRXP_DN0 (in) "USB SuperSpeed receiver differential pair (positive)", 7 USB_SSRXM_DN0 (in) "USB SuperSpeed receiver differential pair (negative)", 8 USB_SSTXP_DN0 (out) "USB SuperSpeed transmitter differential pair (positive)", 9 USB_SSTXM_DN0 (out) "USB SuperSpeed transmitter differential pair (negative)", 12 USB_SSRXP_DN2 (in) "USB SuperSpeed receiver differential pair (positive)", 13 USB_SSRXM_DN2 (in) "USB SuperSpeed receiver differential pair (negative)", 14 USB_SSTXP_DN2 (out) "USB SuperSpeed transmitter differential pair (positive)", 15 USB_SSTXM_DN2 (out) "USB SuperSpeed transmitter differential pair (negative)", 17 USB_DP_DN2 (io) "USB High-speed differential transceiver (positive)", 18 USB_DM_DN2 (io) "USB High-speed differential transceiver (negative)", 22 HS (out) "High-speed status. The terminal is to indicate the connection status of the upstream port as documented below: 0 = Hub in low/full speed mode 1 = Hub in high-speed mode Can be left unconnected.", 23 SS (out) "SuperSpeed status. The terminal is to indicate the connection status of the upstream port as documented below: 0 = Hub not in SuperSpeed mode 1 = Hub in SuperSpeed mode Can be left unconnected.", 24 HS_SUSPEND (out) "High-speed suspend status output. 0 = High-speed upstream port not suspended 1= High-speed upstream port suspended Can be left unconnected.", 25 SS_SUSPEND (out) "SuperSpeed suspend status output. 0 = SuperSpeed upstream port not suspended 1= SuperSpeed upstream port suspended Can be left unconnected.", 27 JTAG_TCK (in) "JTAG test clock. Can be left unconnected.", 28 JTAG_TMS (in) "JTAG test mode select. Can be left unconnected.", 29 JTAG_TDO (out) "JTAG test data out. Can be left unconnected.", 30 JTAG_RSTz (in) "JTAG reset. Pull down using an external 1-KO resistor for normal operation.", 31 JTAG_TDI (in) "JTAG test data in. Can be left unconnected", 33 GRSTz (in) "Global power reset. This reset brings all of the TUSB8040 internal registers to their default states. When GRSTz is asserted, the device is completely nonfunctional. GRSTz should be asserted a minimum of 3 ms after all power rails are valid at the device", 34 SCL/SMBCLK (io) "I2C clock/SMBus clock. Function of terminal depends on the setting of the SMBUSz input. When SMBUSz = 1, this terminal acts as the serial clock interface for an I2C EEPROM. When SMBUSz = 0, this terminal acts as the serial clock interface for an SMBus ho", 35 SDA/SMBDAT (io) "I2C data/SMBus data. Function of terminal depends on the setting of the SMBUSz input. When SMBUSz = 1, this terminal acts as the serial data interface for an I2C EEPROM. When SMBUSz = 0, this terminal acts as the serial data interface for an SMBus host.", 36 SMBUSz (in) "I2C/SMBus mode select. 1 = I2C Mode Selected 0 = SMBus Mode Selected Can be left unconnected if external interface not implemented.", 39 PWRON0z_BATEN0 (out) "USB port power on control for downstream power/battery charging enable. The terminal is used for control of the downstream power switch; in addition, the value of the terminal is sampled at the de-assertion of reset to determine the value of the battery", 40 OVERCUR0z (in) "USB downstream port over-current detection. The TUSB8040PFP only supports ganged mode. This terminal receives the over-current indication for all downstream ports. 0 = An overcurrent event has occurred 1 = An overcurrent event has not occurred This termi", 41 FULLPWRMGMTz_SMBA1 (in) "Full power management enable/SMBus address bit 1. The value of the terminal is sampled at the de-assertion of reset to set the power switch control follows: 0 = Full power management supported 1 = Full Power management not supported Full power management", 44 USB_DM_DN3 (io) "USB High-speed differential transceiver (negative)", 45 USB_DP_DN3 (io) "USB High-speed differential transceiver (positive)", 47 USB_SSRXP_DN3 (in) "USB SuperSpeed receiver differential pair (positive)", 48 USB_SSRXM_DN3 (in) "USB SuperSpeed receiver differential pair (negative)", 49 USB_SSTXP_DN3 (out) "USB SuperSpeed transmitter differential pair (positive)", 50 USB_SSTXM_DN3 (out) "USB SuperSpeed transmitter differential pair (negative)", 53 USB_SSRXP_DN1 (in) "USB SuperSpeed receiver differential pair (positive)", 54 USB_SSRXM_DN1 (in) "USB SuperSpeed receiver differential pair (negative)", 55 USB_SSTXP_DN1 (out) "USB SuperSpeed transmitter differential pair (positive)", 56 USB_SSTXM_DN1 (out) "USB SuperSpeed transmitter differential pair (negative)", 59 USB_DM_DN1 (io) "USB High-speed differential transceiver (negative)", 60 USB_DP_DN1 (io) "USB High-speed differential transceiver (positive)", 62 USB_SSTXM_UP (out) "USB SuperSpeed transmitter differential pair (negative)", 63 USB_SSTXP_UP (out) "USB SuperSpeed transmitter differential pair (positive)", 65 USB_SSRXM_UP (in) "USB SuperSpeed receiver differential pair (negative)", 66 USB_SSRXP_UP (in) "USB SuperSpeed receiver differential pair (positive)", 69 USB_DM_UP (io) "USB high-speed differential transceiver (negative)", 70 USB_DP_UP (io) "USB high-speed differential transceiver (positive)", 73 USB_VBUS (in) "USB upstream port power monitor. The VBUS detection requires a voltage divider. The signal USB_VBUS must be connected to VBUS through a 90.9- K ohm +/-1% resistor, and to ground through a 10-Kohm +/-% resistor from the signal to ground.", 74 XO "Crystal output. This terminal is crystal output for the internal oscillator. If XI is driven by an external oscillator this pin may be left unconnected. When using a crystal a 1-M ohm feedback resistor is required between XI and XO.", 75 VSS_OSC (in) "Oscillator return. If using a crystal, the load capacitors should use this signal as thereturn path and it should not be connected to the PCB ground. If using an oscillator, this terminal should be connected to PCB Ground.", 76 XI "Crystal input. This terminal is the crystal input for the internal oscillator. The input may alternately be driven by the output of an external oscillator. When using a crystal a 1-M ohm feedback resistor is required between XI and XO.", 78 USB_R1 "Precision resistor reference. A 9.09-Kohm +/-1% resistor should be connected between USB_R1 and USB_R1RTN.", 79 USB_R1RTN "Precision resistor reference return"
part B pins: 1 VDD11 (power) "1.1-V power rail", 4 VDD33 (power) "3.3-V power rail", 5 VDD11 (power) "1.1-V power rail", 10 VDD11 (power) "1.1-V power rail", 11 VDD11 (power) "1.1-V power rail", 16 VDD11 (power) "1.1-V power rail", 19 VDD33 (power) "3.3-V power rail", 20 VDD11 (power) "1.1-V power rail", 21 VDD33 (power) "3.3-V power rail", 26 VDD11 (power) "1.1-V power rail", 32 VDD11 (power) "1.1-V power rail", 37 VDD11 (power) "1.1-V power rail", 38 VDD33 (power) "3.3-V power rail", 42 VDD11 (power) "1.1-V power rail", 43 VDD33 (power) "3.3-V power rail", 46 VDD11 (power) "1.1-V power rail", 51 VDD11 (power) "1.1-V power rail", 52 VDD11 (power) "1.1-V power rail", 57 VDD11 (power) "1.1-V power rail", 58 VDD33 (power) "3.3-V power rail", 61 VDD11 (power) "1.1-V power rail", 64 GND (power) "Ground, Power Pad", 67 VDD11 (power) "1.1-V power rail", 68 VDD33 (power) "3.3-V power rail", 71 VDD11 (power) "1.1-V power rail", 72 VDD33 (power) "3.3-V power rail", 77 VDD33 (power) "3.3-V power rail", 80 VDD33 (power) "3.3-V power rail", 81 GND (power) "Ground, Power Pad"